# EAGLE library part LM335AM (library DSDEagleLibrary)
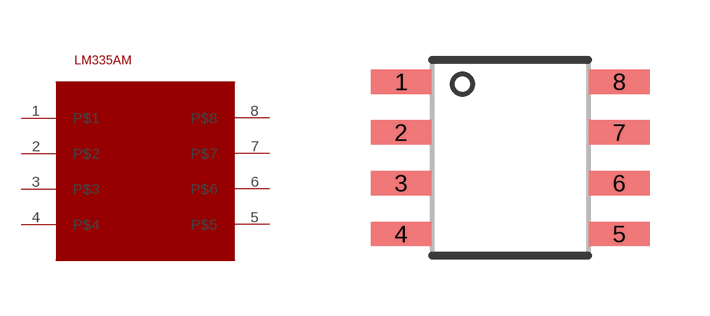
[diagram p59: symbol with the pads of SOIC-8; footprint SOIC-8]

Designator prefix U

## LM335AM  [SOIC-8]
1  P$1
2  P$2
3  P$3
4  P$4
5  P$5
6  P$6
7  P$7
8  P$8

## Footprint SOIC-8 (pad centres in mm)
smd 1.524 x 0.61: 1 -2.68,1.855; 2 -2.68,0.585; 3 -2.68,-0.685; 4 -2.68,-1.955; 5 2.78,-1.955; 6 2.78,-0.685; 7 2.78,0.585; 8 2.78,1.855